# EAGLE library part CON_P2X20 (library akita)
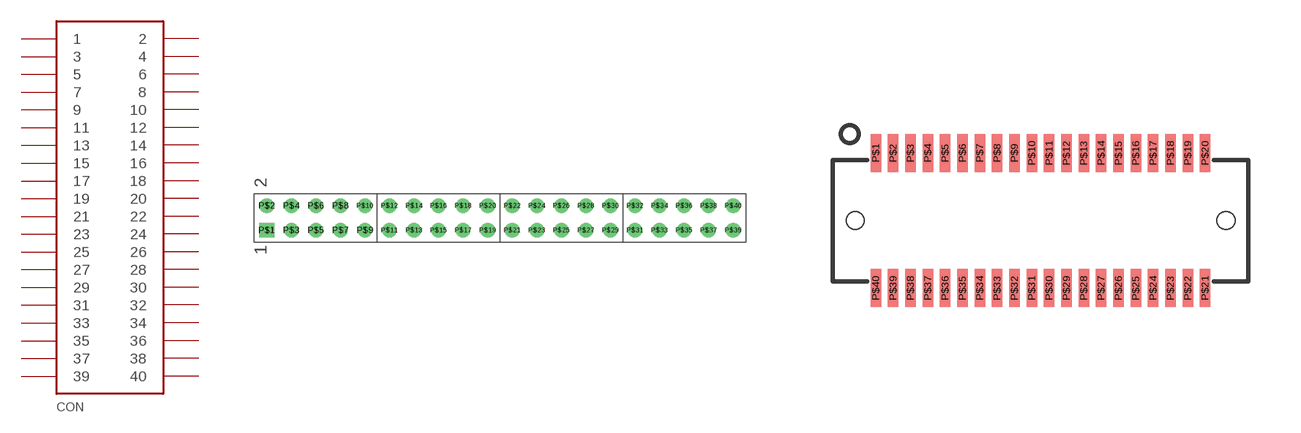
[diagram p52: symbol with the pads of 2X20R; footprints 2X20R, CON_JST-JMCS40P]

Designator prefix CON

## CON_P2X20  [2X20R]
P$1  1
P$2  2
P$3  3
P$4  4
P$5  5
P$6  6
P$7  7
P$8  8
P$9  9
P$10  10
P$11  11
P$12  12
P$13  13
P$14  14
P$15  15
P$16  16
P$17  17
P$18  18
P$19  19
P$20  20
P$21  21
P$22  22
P$23  23
P$24  24
P$25  25
P$26  26
P$27  27
P$28  28
P$29  29
P$30  30
P$31  31
P$32  32
P$33  33
P$34  34
P$35  35
P$36  36
P$37  37
P$38  38
P$39  39
P$40  40

## CON_P2X20JST-JMCS-P  [CON_JST-JMCS40P]
Pads as for 2X20R

## CON_P2X20JST-JMCS-R  [CON_JST-JMCS40R]
Pads as for 2X20R

## Footprint 2X20R (pad centres in mm)
drill 1 square: P$1 -12.7,-1.27
drill 1: P$2 -12.7,1.27; P$3 -10.16,-1.27; P$4 -10.16,1.27; P$5 -7.62,-1.27; P$6 -7.62,1.27; P$7 -5.08,-1.27; P$8 -5.08,1.27; P$9 -2.54,-1.27; P$10 -2.54,1.27; P$11 0,-1.27; P$12 0,1.27; P$13 2.54,-1.27; P$14 2.54,1.27; P$15 5.08,-1.27; P$16 5.08,1.27; P$17 7.62,-1.27; P$18 7.62,1.27; P$19 10.16,-1.27; P$20 10.16,1.27; P$21 12.7,-1.27; P$22 12.7,1.27; P$23 15.24,-1.27; P$24 15.24,1.27; P$25 17.78,-1.27; P$26 17.78,1.27; P$27 20.32,-1.27; P$28 20.32,1.27; P$29 22.86,-1.27; P$30 22.86,1.27; P$31 25.4,-1.27; P$32 25.4,1.27; P$33 27.94,-1.27; P$34 27.94,1.27; P$35 30.48,-1.27; P$36 30.48,1.27; P$37 33.02,-1.27; P$38 33.02,1.27; P$39 35.56,-1.27; P$40 35.56,1.27

## Footprint CON_JST-JMCS40P (pad centres in mm)
smd 0.3 x 1.1: P$1 -4.75,1.95; P$2 -4.25,1.95; P$3 -3.75,1.95; P$4 -3.25,1.95; P$5 -2.75,1.95; P$6 -2.25,1.95; P$7 -1.75,1.95; P$8 -1.25,1.95; P$9 -0.75,1.95; P$10 -0.25,1.95; P$11 0.25,1.95; P$12 0.75,1.95; P$13 1.25,1.95; P$14 1.75,1.95; P$15 2.25,1.95; P$16 2.75,1.95; P$17 3.25,1.95; P$18 3.75,1.95; P$19 4.25,1.95; P$20 4.75,1.95; P$21 4.75,-1.95; P$22 4.25,-1.95; P$23 3.75,-1.95; P$24 3.25,-1.95; P$25 2.75,-1.95; P$26 2.25,-1.95; P$27 1.75,-1.95; P$28 1.25,-1.95; P$29 0.75,-1.95; P$30 0.25,-1.95; P$31 -0.25,-1.95; P$32 -0.75,-1.95; P$33 -1.25,-1.95; P$34 -1.75,-1.95; P$35 -2.25,-1.95; P$36 -2.75,-1.95; P$37 -3.25,-1.95; P$38 -3.75,-1.95; P$39 -4.25,-1.95; P$40 -4.75,-1.95
hole 0.5 at -5.35,0
hole 0.5 at 5.35,0

## Footprint CON_JST-JMCS40R (pad centres in mm)
smd 0.3 x 1: P$1 -4.75,1.85; P$2 -4.25,1.85; P$3 -3.75,1.85; P$4 -3.25,1.85; P$5 -2.75,1.85; P$6 -2.25,1.85; P$7 -1.75,1.85; P$8 -1.25,1.85; P$9 -0.75,1.85; P$10 -0.25,1.85; P$11 0.25,1.85; P$12 0.75,1.85; P$13 1.25,1.85; P$14 1.75,1.85; P$15 2.25,1.85; P$16 2.75,1.85; P$17 3.25,1.85; P$18 3.75,1.85; P$19 4.25,1.85; P$20 4.75,1.85; P$21 4.75,-1.85; P$22 4.25,-1.85; P$23 3.75,-1.85; P$24 3.25,-1.85; P$25 2.75,-1.85; P$26 2.25,-1.85; P$27 1.75,-1.85; P$28 1.25,-1.85; P$29 0.75,-1.85; P$30 0.25,-1.85; P$31 -0.25,-1.85; P$32 -0.75,-1.85; P$33 -1.25,-1.85; P$34 -1.75,-1.85; P$35 -2.25,-1.85; P$36 -2.75,-1.85; P$37 -3.25,-1.85; P$38 -3.75,-1.85; P$39 -4.25,-1.85; P$40 -4.75,-1.85
hole 0.5 at 5.35,0
hole 0.5 at -5.35,0